# Altium footprint library My Library.PcbLib: 161 footprints (part 2 of 11)
Each footprint in its own frame and in the unit in brackets; x right, y up, seen from the top. Pads: shape width x height; smd on the part's side, far side on the other; paste and mask are expansions set on the pad; w line width, h text height; cw(c..) or ccw(c..) is an arc to the next point about the centre after c.
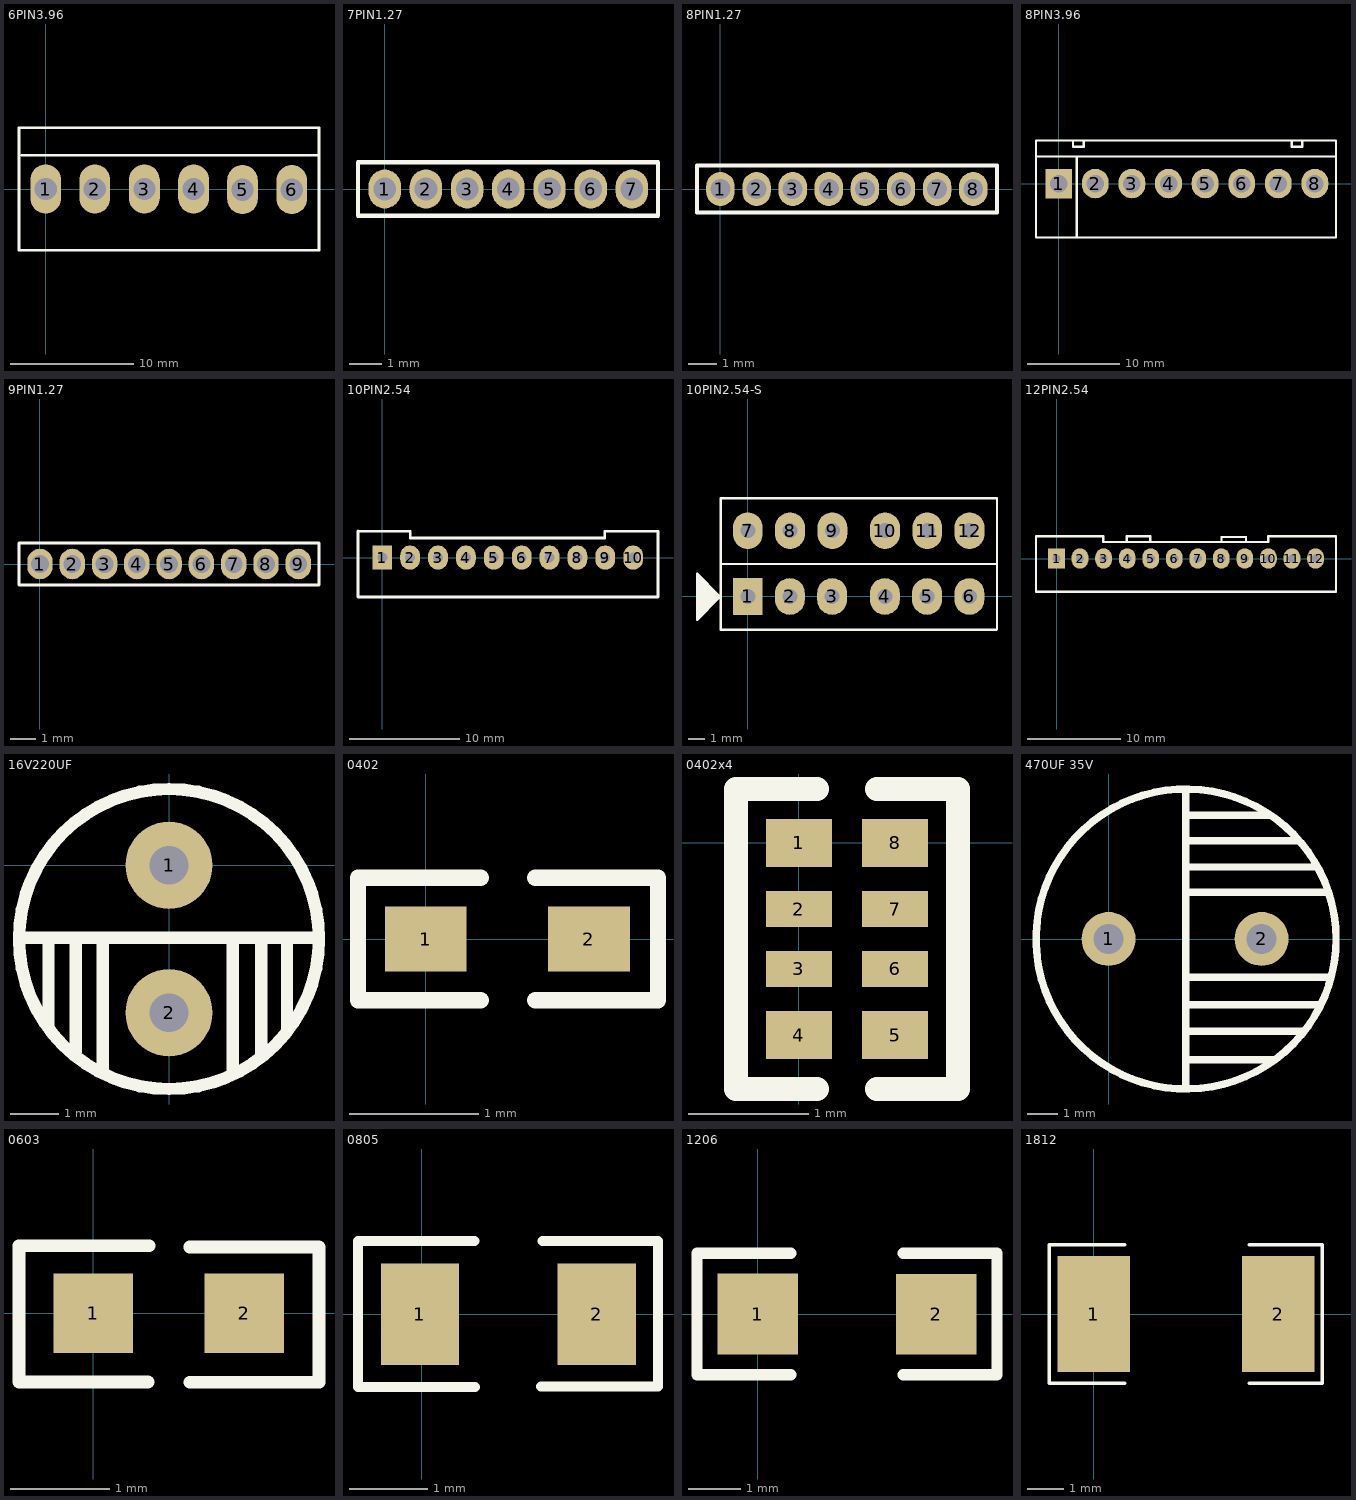
[diagram p1: the footprints below, top view; thin cyan lines are the x and y axes]

## 6PIN3.96 [mil]
height 590.55
pads (6):
  oval 98x157 hole 71: 1(0,0) 2(157,0) 3(315,0) 4(472,0) 5(628,-2) 6(785,-2)
Top Overlay:
  lines w8: -77,108 547,108 ; 541,108 872,108 872,-195 -85,-195 -85,195 872,195 872,97

## 7PIN1.27 [mm]
height 10
pads (7):
  oval 1x1.2 hole 0.7: 1(0,0) 2(1.27,0) 3(2.54,0) 4(3.81,0) 5(5.08,0) 6(6.35,0) 7(7.62,0)
Top Overlay:
  lines w0.127: -0.825,-0.825 8.425,-0.825 8.425,0.825 -0.825,0.825 -0.825,-0.825

## 8PIN1.27 [mm]
height 10
pads (8):
  oval 1x1.2 hole 0.7: 1(0,0) 2(1.27,0) 3(2.54,0) 4(3.81,0) 5(5.08,0) 6(6.35,0) 7(7.62,0) 8(8.89,0)
Top Overlay:
  lines w0.127: -0.825,-0.825 9.725,-0.825 9.725,0.825 -0.825,0.825 -0.825,-0.825

## 8PIN3.96 [mm]
height 10
pads (8):
  rect 2.9x3.2 hole 1.9: 1(0,0)
  oval 2.9x3.2 hole 1.9: 2(3.96,0) 3(7.92,0) 4(11.88,0) 5(15.84,0) 6(19.8,0) 7(23.76,0) 8(27.72,0)
Top Overlay:
  lines w0.25: -2.45,2.93 30,2.93 ; 1.55,4.61 1.55,3.97 2.7,3.97 2.7,4.61 ; 1.96,-5.82 1.96,2.89 ; 25.21,4.61 25.21,3.97 26.36,3.97 26.36,4.61 ; -2.46,-5.84 30,-5.84 30,4.66 -2.46,4.66 -2.46,-5.84

## 9PIN1.27 [mm]
height 10
pads (9):
  oval 1x1.2 hole 0.7: 1(0,0) 2(1.27,0) 3(2.54,0) 4(3.81,0) 5(5.08,0) 6(6.35,0) 7(7.62,0) 8(8.89,0) 9(10.16,0)
Top Overlay:
  lines w0.127: -0.825,-0.825 -0.825,0.825 10.975,0.825 10.975,-0.825 -0.825,-0.825

## 10PIN2.54 [mm]
height 5
pads (10):
  rect 1.8x2.2 hole 0.9: 1(0,0)
  oval 1.8x2.2 hole 0.9: 2(2.53,0) 3(5.07,0) 4(7.61,0) 5(10.15,0) 6(12.69,0) 7(15.22,0) 8(17.76,0) 9(20.3,0) 10(22.84,0)
Top Overlay:
  lines w0.25: -2.214,2.41 -2.214,-3.59 25.1,-3.59 25.1,2.4 20.25,2.4 20.25,1.775 2.55,1.775 2.55,2.4 -2.2,2.4
3D body: height 5, standoff 0, extent -2.225,-3.575 25.1,2.375

## 10PIN2.54-S [mm]
height 10
pads (12):
  rect 1.8x2.2 hole 0.9: 1(0,0)
  oval 1.8x2.2 hole 0.9: 2(2.53,0) 3(5.07,0) 4(8.235,0) 5(10.775,0) 6(13.315,0) 7(0,3.95) 8(2.54,3.95) 9(5.08,3.95) 10(8.245,3.95) 11(10.785,3.95) 12(13.325,3.95)
Top Overlay:
  region: -3.025,-1.4 -1.725,-0.1 -1.725,0.05 -3,1.325 -3.025,1.3
  lines w0.127: -1.675,-0.05 -3.05,-1.425 -3.05,1.375 -1.675,0 -1.675,-0.025 ; -1.625,-2 14.95,-2 ; -1.625,-1.975 -1.625,1.975 ; 11.575,1.95 14.975,1.95 ; 14.975,-1.975 14.975,1.95 ; 14.975,1.95 -1.625,1.95 -1.625,5.9 14.975,5.9 14.975,1.95

## 12PIN2.54 [mm]
height 5
pads (12):
  rect 1.8x2.2 hole 0.9: 1(0,0)
  oval 1.8x2.2 hole 0.9: 2(2.53,0) 3(5.07,0) 4(7.61,0) 5(10.15,0) 6(12.69,0) 7(15.22,0) 8(17.76,0) 9(20.3,0) 10(22.84,0) 11(25.38,0) 12(27.92,0)
Top Overlay:
  lines w0.25: -2.214,2.41 -2.214,-3.59 30.125,-3.59 30.125,2.4 22.825,2.4 22.825,1.775 5.05,1.775 5.05,2.4 -2.2,2.4 ; 7.575,1.775 7.575,2.4 10.1,2.4 10.1,1.825 ; 17.775,1.825 17.775,2.325 ; 20.425,1.775 20.425,2.325 ; 17.775,2.325 17.775,2.325 ; 17.775,2.325 20.425,2.325 ; 20.425,2.325 20.425,2.325
3D body: height 5, standoff 0, extent -2.225,-3.575 30.1,2.375

## 16V220UF [mm]
pads (2):
  round 1.8 hole 0.8: 1(0,0) 2(0,-3.048)
Top Overlay:
  circle w0.254: c0,-1.524 r3.1
  lines w0.254: -3.099,-1.499 3.073,-1.499 ; -2.488,-3.275 -2.488,-1.499 ; -1.93,-3.85 -1.93,-1.499 ; -1.37,-4.25 -1.37,-1.499 ; 1.319,-4.25 1.319,-1.549 ; 1.904,-3.925 1.904,-1.499 ; 2.438,-3.429 2.438,-1.499
3D body: height 10, standoff 0, extent -3.225,-4.775 3.249,1.712

## 0402 [mm]
height 1
pads (2):
  rect 0.635x0.5 smd: 1(0,0) 2(1.265,0)
Top Overlay:
  lines w0.127: 0.425,-0.475 -0.525,-0.475 -0.525,0.475 0.425,0.475 ; 0.85,-0.475 1.8,-0.475 1.8,0.475 0.85,0.475
3D body: height 1, standoff 0, extent 0.075,-0.25 1.175,0.25

## 0402x4 [mm]
height 1
pads (8):
  rect 0.55x0.4 smd: 1(0,0) 4(0,-1.6) 5(0.8,-1.6) 8(0.8,0)
  rect 0.55x0.3 smd: 2(0,-0.551) 3(0,-1.049) 6(0.8,-1.049) 7(0.8,-0.551)
Top Overlay:
  lines w0.2: 0.151,-2.05 -0.525,-2.05 -0.525,0.45 0.151,0.45 ; 0.649,-2.05 1.325,-2.05 1.325,0.45 0.649,0.45

## 470UF 35V [mm]
pads (2):
  round 1.8 hole 1: 1(-0.002,0.002) 2(5.098,0.002)
Top Overlay:
  circle w0.25: c2.58,0 r5
  lines w0.25: 2.57,-4.95 2.57,4.93 ; 2.6,4.125 5.375,4.125 ; 2.615,2.4 6.925,2.4 ; 2.615,3.27 6.3,3.27 ; 2.625,-3.075 6.5,-3.075 ; 2.64,-4.025 5.5,-4.025 ; 2.64,-2.195 7.05,-2.195 ; 2.64,1.55 7.3,1.55 ; 2.665,-1.275 7.325,-1.275
3D body: height 15, standoff 0, extent -2.325,-4.975 7.636,5.005

## 0603 [mm]
pads (2):
  rect 0.8x0.8 smd: 1(0,0) 2(1.524,0)
Top Overlay:
  lines w0.127: -0.745,0.652 -0.745,-0.694 0.553,-0.694 ; -0.745,0.679 0.564,0.679 ; 0.974,0.665 2.274,0.665 2.274,-0.698 0.976,-0.698
3D body: height 1, standoff 0, extent 0,-0.4 1.525,0.4

## 0805 [mm]
pads (2):
  rect 1x1.3 smd: 1(-0.02,-0.002) 2(2.241,-0.002)
Top Overlay:
  lines w0.127: -0.813,-0.935 -0.813,0.933 0.675,0.933 ; -0.81,-0.935 0.683,-0.935 ; 1.526,-0.925 3.025,-0.925 3.025,0.936 1.55,0.936
3D body: height 1, standoff 0, extent 0,-0.55 2.25,0.55

## 1206 [mm]
pads (2):
  rect 1.55x1.55 smd: 1(0,0) 2(3.43,-0.004)
Top Overlay:
  lines w0.22: 0.635,-1.17 -1.17,-1.17 -1.17,1.17 0.635,1.17 ; 2.794,-1.17 4.6,-1.17 4.6,1.17 2.794,1.17
3D body: height 2, standoff 0, extent 0,-0.875 3.45,0.875

## 1812 [mm]
height 1
pads (2):
  rect 2x3.175 smd: 1(0,0) 2(5.069,0)
Top Overlay:
  lines w0.1: 0.846,-1.9 -1.225,-1.9 -1.225,1.9 0.846,1.9 ; 4.275,-1.9 6.275,-1.9 6.275,1.9 4.275,1.9
3D body: height 1, standoff 0, extent 0,-1.575 5.05,1.575